# Altium schematic symbol library Logic gate XOR.SchLib: 1 symbol
Pins are listed as number, name and electrical type; pins without a type are passive.

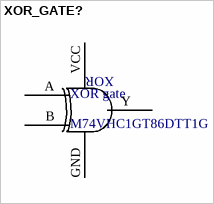
[diagram p0: symbol XOR_GATE?]

## XOR_GATE?
designator XOR gate, comment M74VHC1GT86DTT1G
footprint SN74LVC1G04MDBVREP
pins: A, B, GND, VCC, Y
text: XOR